# Altium footprint library Type-C-D-231__KLS1-5463.PcbLib: 1 footprints
Each footprint in its own frame and in the unit in brackets; x right, y up, seen from the top. Pads: shape width x height; smd on the part's side, far side on the other; paste and mask are expansions set on the pad; w line width, h text height; cw(c..) or ccw(c..) is an arc to the next point about the centre after c.
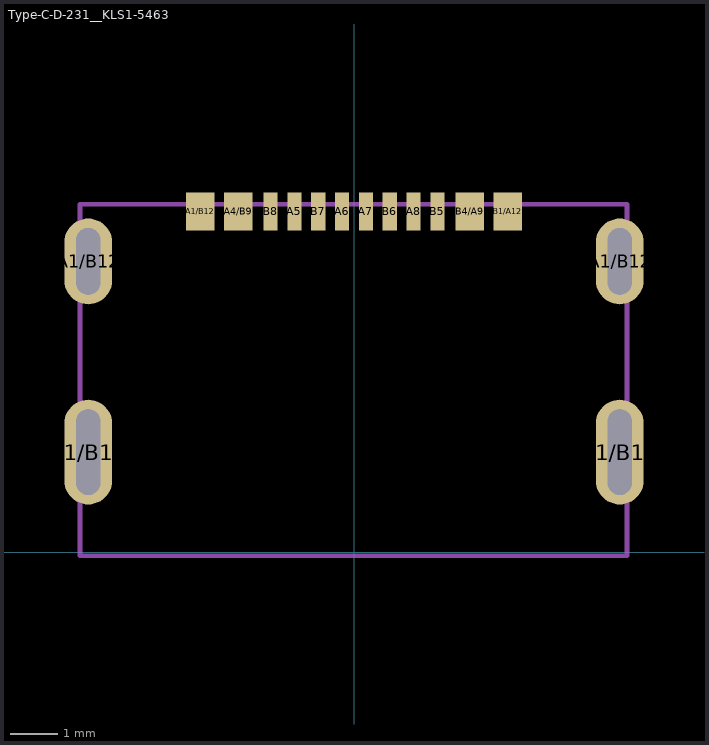
[diagram p0: the footprint, top view; thin cyan lines are the x and y axes]

## Type-C-D-231__KLS1-5463 [mm]
pads (16):
  oval 1x2.2 hole 0.5 slot 1.8 at 90 deg: A1/B12(-5.575,2.1) A1/B12(5.575,2.1)
  oval 1x1.8 hole 0.5 slot 1.4 at 90 deg: A1/B12(-5.575,6.1) A1/B12(5.575,6.1)
  rect 0.6x0.8 smd mask+0.05: A1/B12(-3.225,7.15) A4/B9(-2.425,7.15) B1/A12(3.225,7.15) B4/A9(2.425,7.15)
  rect 0.3x0.8 smd mask+0.05: A5(-1.25,7.15) A6(-0.25,7.15) A7(0.25,7.15) A8(1.25,7.15) B5(1.75,7.15) B6(0.75,7.15) B7(-0.75,7.15) B8(-1.75,7.15)
Top Assembly:
  lines w0.1: -5.75,-0.075 5.725,-0.075 5.725,7.3 -5.75,7.3 -5.75,-0.075
  text "'.Designator'" at -1,-0.3 h0.7
3D body "xb-u262-161n-4bc20865.stp": height 2.43, standoff -0.73, extent -5.68,0 5.68,7.2